# Altium schematic symbol library ReadyButNotListed.SchLib: 6 symbols
Pins are listed as number, name and electrical type; pins without a type are passive.

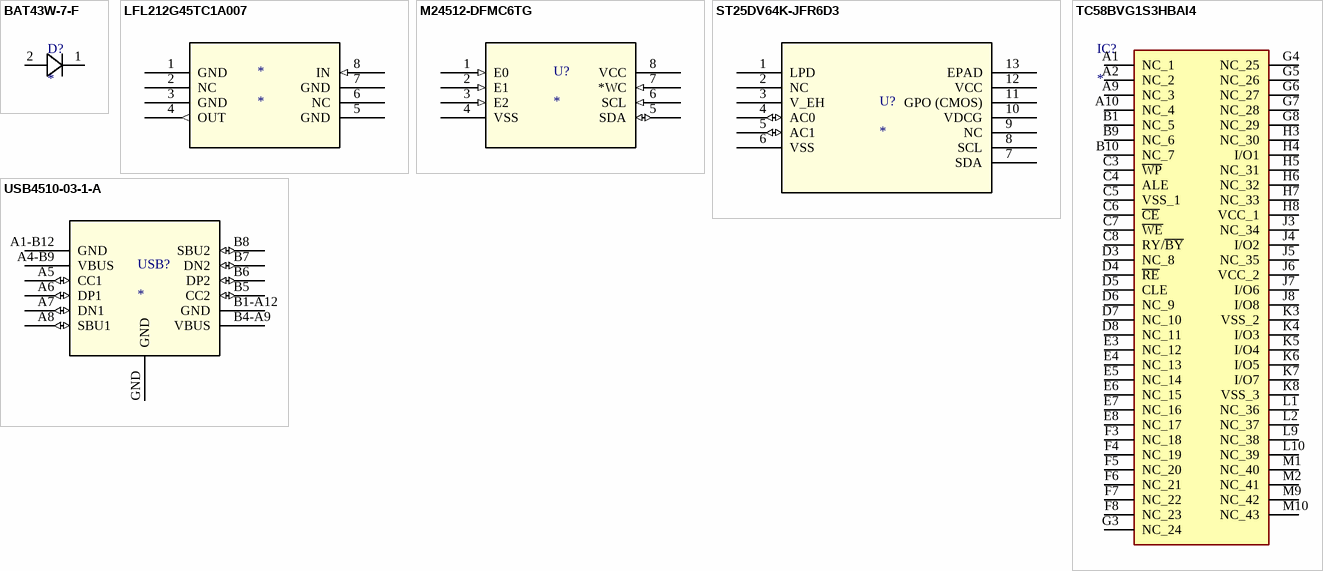
[diagram p0: symbols BAT43W-7-F to USB4510-03-1-A]

## BAT43W-7-F
designator D?
footprint BAT43W-7-F
pins: 1, 2

## LFL212G45TC1A007
designator *
footprint LFL212G45TC1A007
pins: 1 GND, 2 NC, 3 GND, 4 OUT (out), 5 GND, 6 NC, 7 GND, 8 IN (in)

## M24512-DFMC6TG
designator U?
footprint M24512-DFMC6TG
pins: 1 E0 (in), 2 E1 (in), 3 E2 (in), 4 VSS, 5 SDA (io), 6 SCL (in), 7 *WC (in), 8 VCC (power)

## ST25DV64K-JFR6D3
designator U?
footprint ST25DV64K-JFR6D3
pins: 1 LPD, 2 NC, 3 V_EH, 4 AC0 (io), 5 AC1 (io), 6 VSS, 7 SDA, 8 SCL, 9 NC, 10 VDCG, 11 GPO (CMOS), 12 VCC (power), 13 EPAD

## TC58BVG1S3HBAI4
designator IC?
Integrated Circuit; Manufacturer_Name: Toshiba; Manufacturer_Part_Number: TC58BVG1S3HBAI4; Description: TC58BVG1S3HBAI4 NAND Flash Memory; Datasheet Link: https://media.digikey.com/pdf/Data%20Sheets/Toshiba%20PDFs/KIOXIA_TC58BVG1S3HBAI4_REV2.00_E20191001C.pdf; Height: 1mm; Mouser Part Number: 757-TC58BVG1S3HBAI4; Mouser Price/Stock: https://www.mouser.com/Search/Refine.aspx?Keyword=757-TC58BVG1S3HBAI4
footprint BGA63C80P10X12_900X1100X100
pins: A1 NC_1, A2 NC_2, A9 NC_3, A10 NC_4, B1 NC_5, B9 NC_6, B10 NC_7, C3 ~{WP}, C4 ALE, C5 VSS_1, C6 ~{CE}, C7 ~{WE}, C8 RY/~{BY}, D3 NC_8, D4 ~{RE}, D5 CLE, D6 NC_9, D7 NC_10, D8 NC_11, E3 NC_12, E4 NC_13, E5 NC_14, E6 NC_15, E7 NC_16, E8 NC_17, F3 NC_18, F4 NC_19, F5 NC_20, F6 NC_21, F7 NC_22, F8 NC_23, G3 NC_24, G4 NC_25, G5 NC_26, G6 NC_27, G7 NC_28, G8 NC_29, H3 NC_30, H4 I/O1, H5 NC_31, H6 NC_32, H7 NC_33, H8 VCC_1, J3 NC_34, J4 I/O2, J5 NC_35, J6 VCC_2, J7 I/O6, J8 I/O8, K3 VSS_2, K4 I/O3, K5 I/O4, K6 I/O5, K7 I/O7, K8 VSS_3, L1 NC_36, L2 NC_37, L9 NC_38, L10 NC_39, M1 NC_40, M2 NC_41, M9 NC_42, M10 NC_43

## USB4510-03-1-A
designator USB?
footprint USB4510-03-1-A
pins: A1-B12 GND, A4-B9 VBUS (power), A5 CC1 (io), A6 DP1 (io), A7 DN1 (io), A8 SBU1 (io), B1-A12 GND, B4-A9 VBUS (power), B5 CC2 (io), B6 DP2 (io), B7 DN2 (io), B8 SBU2 (io), GND